# Altium footprint library TPD2EUSB30DRTR.PcbLib: 1 footprints
Each footprint in its own frame and in the unit in brackets; x right, y up, seen from the top. Pads: shape width x height; smd on the part's side, far side on the other; paste and mask are expansions set on the pad; w line width, h text height; cw(c..) or ccw(c..) is an arc to the next point about the centre after c.
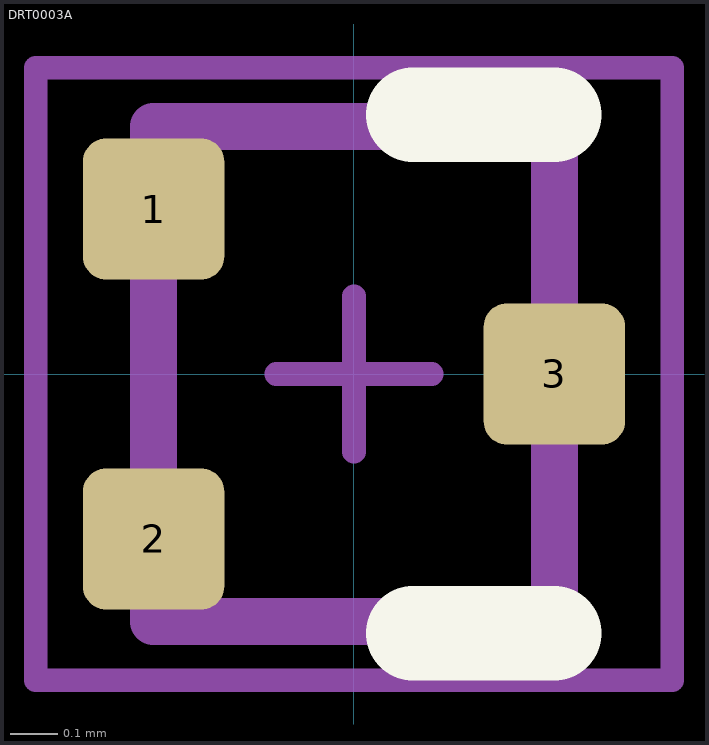
[diagram p0: the footprint, top view; thin cyan lines are the x and y axes]

## DRT0003A [mm] "SOTFL, 3-Leads, Body 1x1mm (inc leads), Pitch 0.35mm"
height 0.5
pads (3):
  rrect33% 0.3x0.3 smd: 1(-0.425,0.35) 2(-0.425,-0.35) 3(0.425,0)
Top Overlay:
  lines w0.2: 0.125,-0.55 0.425,-0.55 ; 0.125,0.55 0.425,0.55
Mechanical 1:
  text ".Designator" at -0.127,0.381 h0.2
Mechanical 13:
  lines w0.1: -0.425,-0.525 -0.425,0.525 0.425,0.525 0.425,-0.525 -0.425,-0.525
Mechanical 15:
  lines w0.05: -0.165,0 0.165,0 ; 0,-0.165 0,0.165 ; -0.675,-0.65 0.675,-0.65 0.675,0.65 -0.675,0.65 -0.675,-0.65
3D body "SOTFL35P100X50-3L.step": height 0.5, standoff 0, extent -0.5,-0.498 0.5,0.498